# Altium footprint library TO254P457X1003X2115-3P.PcbLib: 1 footprints
Each footprint in its own frame and in the unit in brackets; x right, y up, seen from the top. Pads: shape width x height; smd on the part's side, far side on the other; paste and mask are expansions set on the pad; w line width, h text height; cw(c..) or ccw(c..) is an arc to the next point about the centre after c.
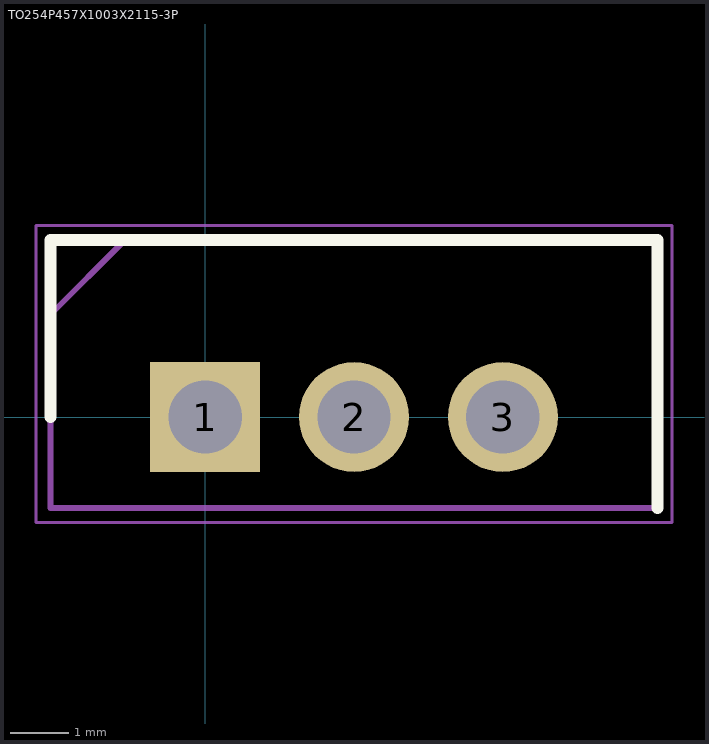
[diagram p0: the footprint, top view; thin cyan lines are the x and y axes]

## TO254P457X1003X2115-3P [mm]
pads (3):
  rect 1.875x1.875 / inner round 1.875 / far side rect 1.875x1.875 hole 1.25: 1(0,0)
  round 1.875 hole 1.25: 2(2.54,0) 3(5.08,0)
Top Overlay:
  lines w0.2: -2.64,0 -2.64,3.02 7.72,3.02 7.72,-1.55
Mechanical 15:
  lines w0.1: -2.64,1.75 -1.37,3.02 ; -2.64,-1.55 7.72,-1.55 7.72,3.02 -2.64,3.02 -2.64,-1.55
Mechanical 20:
  lines w0.05: -2.89,-1.8 7.97,-1.8 7.97,3.27 -2.89,3.27 -2.89,-1.8